# Altium schematic symbol library R82DC4100DQ60J.SchLib: 1 symbol
Pins are listed as number, name and electrical type; pins without a type are passive.

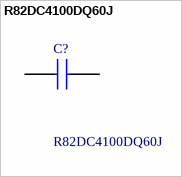
[diagram p0: symbol R82DC4100DQ60J]

## R82DC4100DQ60J
designator C?
R82, Film, Metallized Polyester Stacked, Automotive Grade, 1 uF, 5%, 40 VAC, 63 VDC, 105C, -55C, 85C, 0.8 % , 5 GOhms, 160 V/us, 7000 pH, 0.53 g, 7.2mm, 10mm, 5mm, Lead Spacing = 5mm, 1700; Manufacturer_Name: KEMET; Geometry.Height: 10.1mm; Manufacturer_Part_Number: R82DC4100DQ60J; Mouser Part Number: 80-R82DC4100DQ60J; Mouser Price/Stock: https://www.mouser.co.uk/ProductDetail/KEMET/R82DC4100DQ60J?qs=06HLYMEcjuVd2Wr1NUYuhw%3D%3D; Arrow Part Number: R82DC4100DQ60J; Arrow Price/Stock: https://www.arrow.com/en/products/r82dc4100dq60j/kemet-corporation?region=nac; Datasheet Link: https://content.kemet.com/datasheets/KEM_F3101_R82.pdf
footprint R82DC4100DQ60J
pins: 1, 2